# Altium footprint library JTAG_header_1761681-3.PcbLib: 1 footprints
Each footprint in its own frame and in the unit in brackets; x right, y up, seen from the top. Pads: shape width x height; smd on the part's side, far side on the other; paste and mask are expansions set on the pad; w line width, h text height; cw(c..) or ccw(c..) is an arc to the next point about the centre after c.
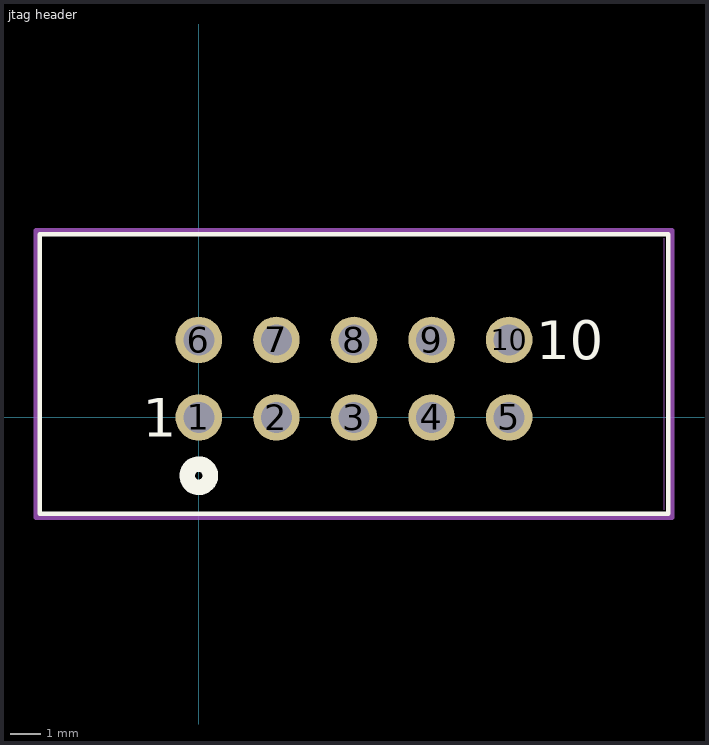
[diagram p0: the footprint, top view; thin cyan lines are the x and y axes]

## jtag header [mil] "2x5 pin 0.1\""
pads (10):
  round 60 hole 40 paste-30 mask+0: 1(0,0) 2(100,0) 3(200,0) 4(300,0) 5(400,0) 6(0,100) 7(100,100) 8(200,100) 9(300,100) 10(400,100)
Top Overlay:
  circle w20: c0,-75 r15
  lines w6: -205,-124 605,-124 605,236 -205,236 -205,-124
  text "1" at -72.5,-25 h50
  text "10" at 435,75 h50
Mechanical 13:
  lines w1: 600,-119 600,231
Mechanical 15:
  lines w6: -210,-129 -210,241 610,241 610,-129 -210,-129